# Altium schematic symbol library SQJ951EP.Schlib: 1 symbol
Pins are listed as number, name and electrical type; pins without a type are passive.

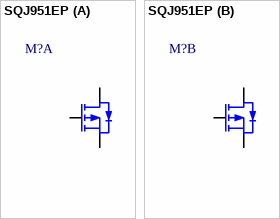
[diagram p0: symbol SQJ951EP]

## SQJ951EP
designator M?
30V 30A Dual P-Channel
part A pins: 1 S1, 2 G1, 5 D1
part B pins: 3 S2, 4 G2, 6 D2